# Altium footprint library SnapEDApcb.PcbLib: 1 footprints
Each footprint in its own frame and in the unit in brackets; x right, y up, seen from the top. Pads: shape width x height; smd on the part's side, far side on the other; paste and mask are expansions set on the pad; w line width, h text height; cw(c..) or ccw(c..) is an arc to the next point about the centre after c.
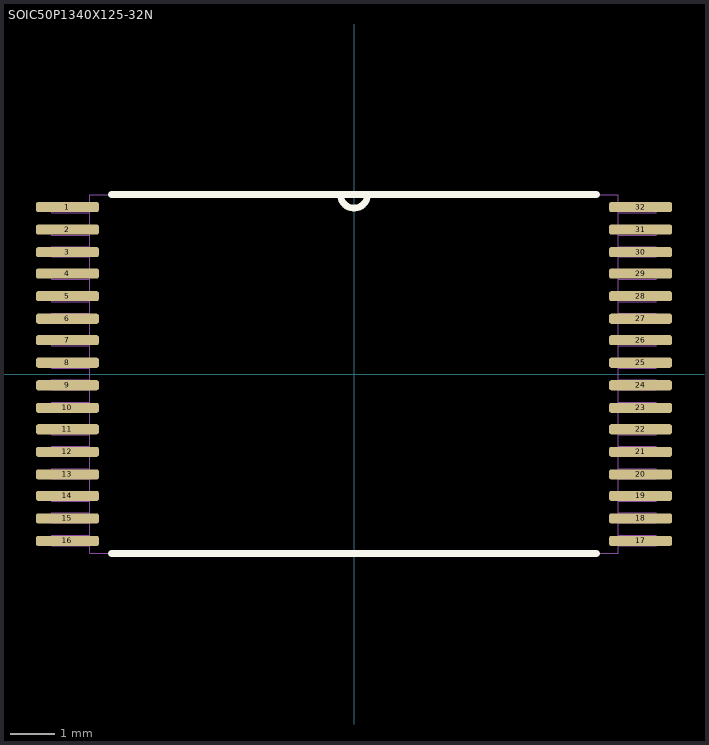
[diagram p0: the footprint, top view; thin cyan lines are the x and y axes]

## SOIC50P1340X125-32N [mil]
pads (32):
  rrect50% 56x9 smd: 1(-254,148) 2(-254,128) 3(-254,108) 4(-254,89) 5(-254,69) 6(-254,49) 7(-254,30) 8(-254,10) 9(-254,-10) 10(-254,-30) 11(-254,-49) 12(-254,-69) 13(-254,-89) 14(-254,-108) 15(-254,-128) 16(-254,-148) 17(254,-148) 18(254,-128) 19(254,-108) 20(254,-89) 21(254,-69) 22(254,-49) 23(254,-30) 24(254,-10) 25(254,10) 26(254,30) 27(254,49) 28(254,69) 29(254,89) 30(254,108) 31(254,128) 32(254,148)
Top Overlay:
  lines w6: -215,-159 215,-159 ; -215,159 -12,159 ; 215,159 12,159 ; -12,159 ccw(c0,159) 12,159 ; -12,159 12,159
Mechanical 13:
  lines w0: -12,159 ccw(c0,159) 12,159 ; -12,159 12,159 ; -12,159 -234,159 -234,-159 234,-159 234,159 12,159 ; -268,-152 -268,-143 -234,-143 -234,-152 -268,-152 ; -268,-132 -268,-123 -234,-123 -234,-132 -268,-132 ; -268,-113 -268,-104 -234,-104 -234,-113 -268,-113 ; -268,-93 -268,-84 -234,-84 -234,-93 -268,-93 ; -268,-73 -268,-64 -234,-64 -234,-73 -268,-73 ; -268,-54 -268,-45 -234,-45 -234,-54 -268,-54 ; -268,-34 -268,-25 -234,-25 -234,-34 -268,-34 ; -268,-14 -268,-5 -234,-5 -234,-14 -268,-14 ; -268,5 -268,14 -234,14 -234,5 -268,5 ; -268,25 -268,34 -234,34 -234,25 -268,25 ; -268,45 -268,54 -234,54 -234,45 -268,45 ; -268,64 -268,73 -234,73 -234,64 -268,64 ; -268,84 -268,93 -234,93 -234,84 -268,84 ; -268,104 -268,113 -234,113 -234,104 -268,104 ; -268,123 -268,132 -234,132 -234,123 -268,123 ; -268,143 -268,152 -234,152 -234,143 -268,143 ; 234,-152 234,-143 268,-143 268,-152 234,-152 ; 234,-132 234,-123 268,-123 268,-132 234,-132 ; 234,-113 234,-104 268,-104 268,-113 234,-113 ; 234,-93 234,-84 268,-84 268,-93 234,-93 ; 234,-73 234,-64 268,-64 268,-73 234,-73 ; 234,-54 234,-45 268,-45 268,-54 234,-54 ; 234,-34 234,-25 268,-25 268,-34 234,-34 ; 234,-14 234,-5 268,-5 268,-14 234,-14 ; 234,5 234,14 268,14 268,5 234,5 ; 234,25 234,34 268,34 268,25 234,25 ; 234,45 234,54 268,54 268,45 234,45 ; 234,64 234,73 268,73 268,64 234,64 ; 234,84 234,93 268,93 268,84 234,84 ; 234,104 234,113 268,113 268,104 234,104 ; 234,123 234,132 268,132 268,123 234,123 ; 234,143 234,152 268,152 268,143 234,143